# Altium schematic symbol library ACS_SchLib.SchLib: 15 symbols
Pins are listed as number, name and electrical type; pins without a type are passive.

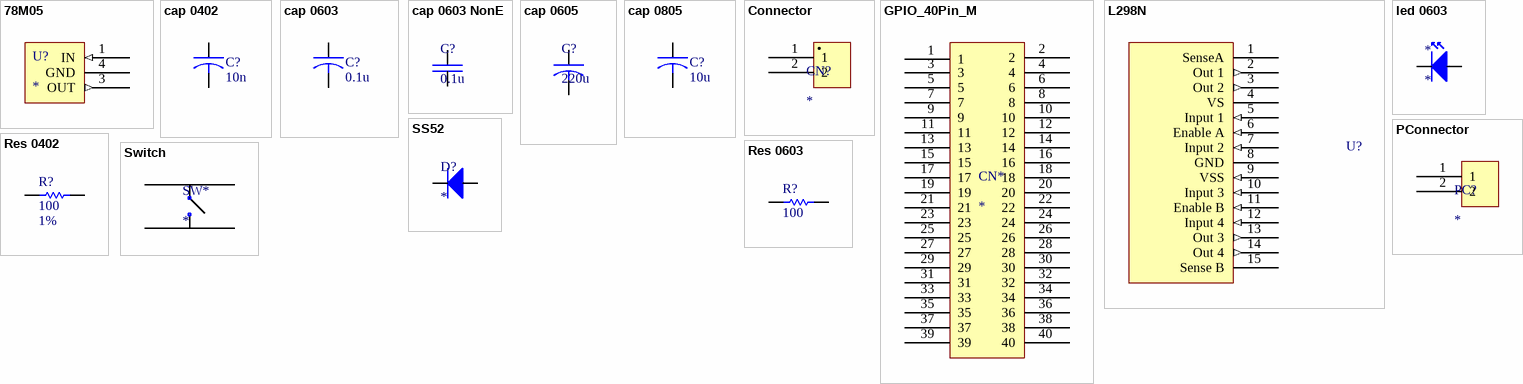
[diagram p0: symbols 78M05 to Switch]

## 78M05
designator U?
Linear Voltage Regulators (LDO)
footprint 78M05
pins: 1 IN (in), 3 OUT (out), 4 GND (power)

## cap 0402
designator C?, comment 10n
C0402 Electrolytic Capacitor
footprint C0402 (Footprint not found)
pins: 1, 2

## cap 0603
designator C?, comment 0.1u
C0603 Electrolytic Capacitor
footprint C0603 (Footprint not found)
pins: 1, 2

## cap 0603 NonE
designator C?, comment 0.1u
C0603 non Electrolytic Capacitor
footprint C0603
pins: 1, 2

## cap 0605
designator C?, comment 220u
C0605 Electrolytic Capacitor
footprint C0605 (RVT220UF35V67RV0024)
pins: 1, 2

## cap 0805
designator C?, comment 10u
C0805 Electrolytic Capacitor
footprint C0805 (Footprint not found)
pins: 1, 2

## Connector
designator CN?
2pin connector
footprint 2PIN
pins: 1, 2

## GPIO_40Pin_M
designator CN*
GPIO 40pin Male Connector
footprint GPIO_40Pin_M
pins: 1, 2, 3, 4, 5, 6, 7, 8, 9, 10, 11, 12, 13, 14, 15, 16, 17, 18, 19, 20, 21, 22, 23, 24, 25, 26, 27, 28, 29, 30, 31, 32, 33, 34, 35, 36, 37, 38, 39, 40

## L298N
designator U?
HGSEMI L298N
footprint L298N (Driver IC)
pins: 1 SenseA, 2 Out 1 (out), 3 Out 2 (out), 4 VS (power), 5 Input 1 (in), 6 Enable A (in), 7 Input 2 (in), 8 GND (power), 9 VSS (in), 10 Input 3 (in), 11 Enable B (in), 12 Input 4 (in), 13 Out 3 (out), 14 Out 4 (out), 15 Sense B

## led 0603
designator *
LED0603
footprint LED0603
pins: 1, 2

## PConnector
designator PC?
2Pin
footprint PC_2Pin
pins: 1, 2

## Res 0402
designator R?, comment 100  Rang: 1%
Resistor; Revision: July-2002: Re-released for DXP Platform.
footprint AXIAL-0.3 (Resistor; 2 Leads)
footprint R0402
pins: 1, 2
1 alternate drawing of the same symbol

## Res 0603
designator R?, comment 100
Resistor; Rang: 1%; Revision: July-2002: Re-released for DXP Platform.
footprint AXIAL-0.3 (Resistor; 2 Leads)
footprint R0603 (Footprint not found)
pins: 1, 2
1 alternate drawing of the same symbol

## SS52
designator D?
SS52 Diode
footprint SMC(DO-214AB)
pins: 1, 2

## Switch
designator SW*
Switch
footprint Switch
pins: 1, 2, 3, 4